# Altium footprint library NE555N.PcbLib: 1 footprints
Each footprint in its own frame and in the unit in brackets; x right, y up, seen from the top. Pads: shape width x height; smd on the part's side, far side on the other; paste and mask are expansions set on the pad; w line width, h text height; cw(c..) or ccw(c..) is an arc to the next point about the centre after c.
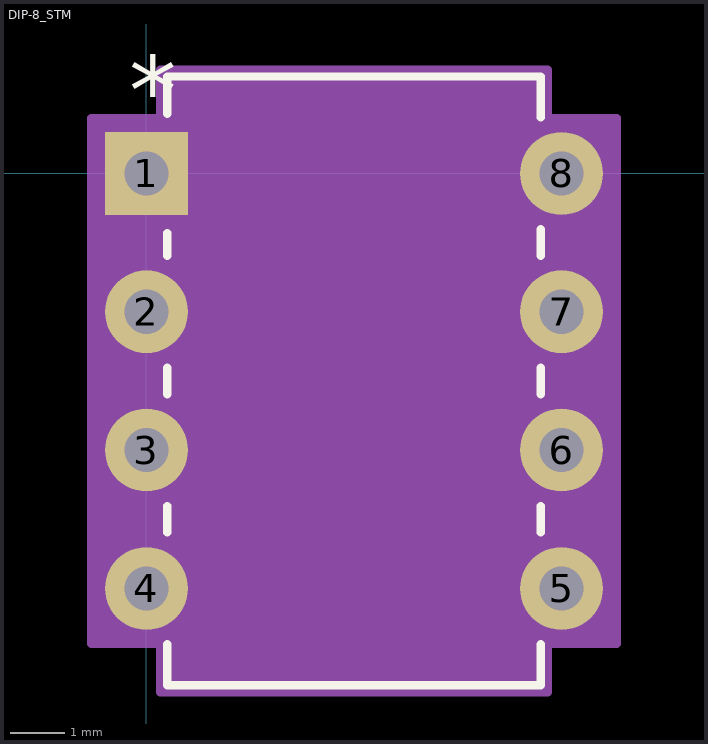
[diagram p0: the footprint, top view; thin cyan lines are the x and y axes]

## DIP-8_STM [mil]
pads (8):
  rect 60x60 / inner round 60 / far side rect 60x60 hole 32 paste-30 mask+0: 1(0,0)
  round 60 hole 32 paste-30 mask+0: 2(0,-100) 3(0,-200) 4(0,-300) 5(300,-300) 6(300,-200) 7(300,-100) 8(300,0)
Top Overlay:
  lines w6: 15,-340.41 15,-370 285,-370 285,-340.41 ; 15,-259.59 15,-240.41 ; 15,-159.59 15,-140.41 ; 15,-59.59 15,-43.1 ; 15,43.1 15,70 285,70 285,40.41 ; 285,-259.59 285,-240.41 ; 285,-159.59 285,-140.41 ; 285,-59.59 285,-40.41
  text "*" at -12.5,35 h50
Mechanical 13:
  lines w0: 138,65 ccw(c150,65) 162,65
  lines w1: -16,-316 -16,-284 20,-284 20,-316 -16,-316 ; -16,-216 -16,-184 20,-184 20,-216 -16,-216 ; -16,-116 -16,-84 20,-84 20,-116 -16,-116 ; -16,-16 -16,16 20,16 20,-16 -16,-16 ; 20,-365 280,-365 280,65 20,65 20,-365 ; 280,-316 280,-284 316,-284 316,-316 280,-316 ; 280,-216 280,-184 316,-184 316,-216 280,-216 ; 280,-116 280,-84 316,-84 316,-116 280,-116 ; 280,-16 280,16 316,16 316,-16 280,-16
  text "*" at 17.5,-25 h50
Mechanical 15:
  region: 290,-340 340,-340 340,40 290,40 290,75 10,75 10,40 -40,40 -40,-340 10,-340 10,-375 290,-375
  lines w6: -40,-340 -40,40 10,40 10,75 290,75 290,40 340,40 340,-340 290,-340 290,-375 10,-375 10,-340 -40,-340
3D body "DIP-8_STM.step": height 205.12, standoff -100, extent -5,-365 315,65